# EAGLE library part 3M-CARD_CONNECTOR_SD (library 3m_sd_card)
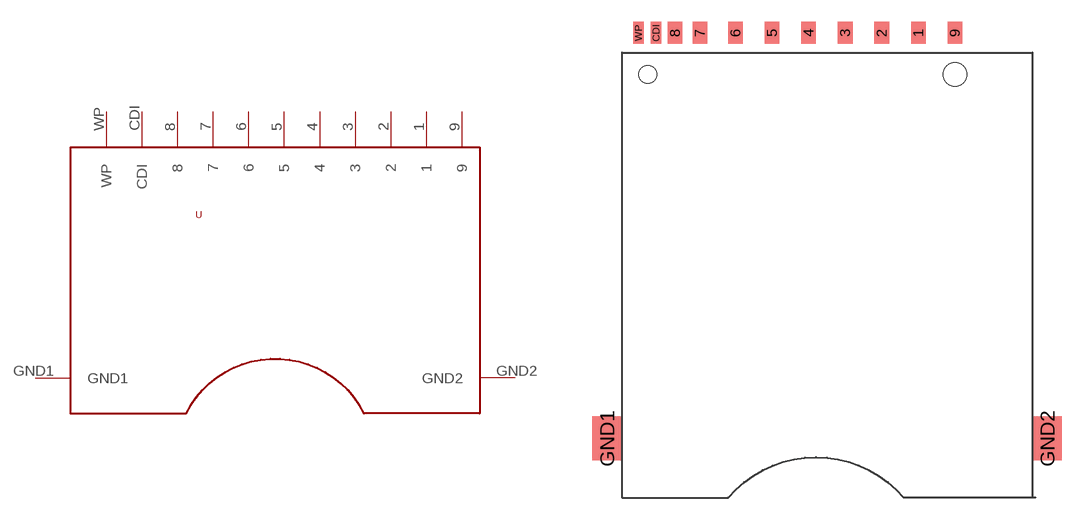
[diagram p0: symbol with the pads of SD_CARD; footprint SD_CARD]

Designator prefix -

## 3M-CARD_CONNECTOR_SD  [SD_CARD]
1  1
2  2
3  3
4  4
5  5
6  6
7  7
8  8
9  9
CDI  CDI
GND1  GND1
GND2  GND2
WP  WP

## Footprint SD_CARD (pad centres in mm)
smd 1 x 1.5: 1 7,2.8; 2 4.5,2.8; 3 2,2.8; 4 -0.5,2.8; 5 -3,2.8; 6 -5.5,2.8; 7 -7.93,2.8; 8 -9.63,2.8; 9 9.5,2.8
smd 0.7 x 1.5: CDI -10.93,2.8; WP -12.13,2.8
smd 2 x 3: GND1 -14.28,-24.95; GND2 15.82,-24.95
hole 1.6 at 9.5,-0.05
hole 1.2 at -11.5,-0.05